# EAGLE library part SIM_CD (library bschulz)
SIM Card Holder with Card Detect
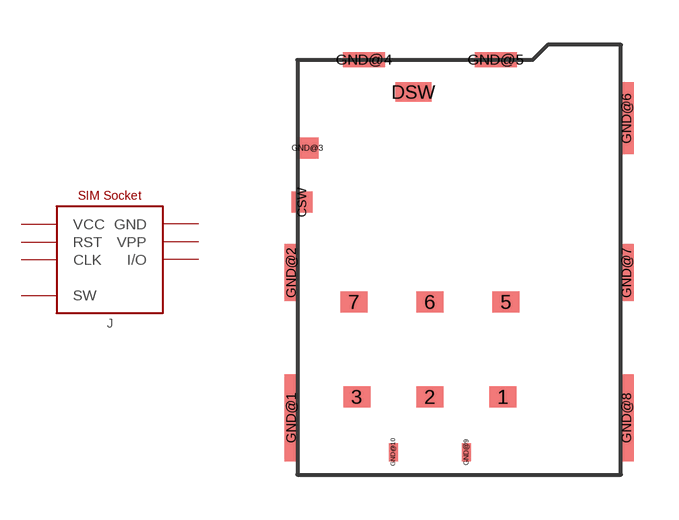
[diagram p173: symbol with the pads of SIM_SF72; footprint SIM_SF72]

Designator prefix J

## SIM_CDNANO_SF72 (DIGIKEY: 670-2967-1-ND; MF: JAE; MPN: SF72S006VBDR2500)  [SIM_SF72]
1  VCC  pwr
2  RST  in
3  CLK  in
5  GND  pwr
6  VPP  pwr
7  I/O
CSW  GND  pwr
DSW  SW  out
GND@1  GND  pwr
GND@2  GND  pwr
GND@3  GND  pwr
GND@4  GND  pwr
GND@5  GND  pwr
GND@6  GND  pwr
GND@7  GND  pwr
GND@8  GND  pwr
GND@9  GND  pwr
GND@10  GND  pwr

## Footprint SIM_SF72 (pad centres in mm)
Nano SIM card holder with position detect switch Datasheet <https://www.jae.com/direct/topics/topics_file_download/topics_id=68892&ext_no=06&index=0&_lang=en>
smd 0.9 x 0.7: 1 2.44,2.6; 2 0,2.6; 3 -2.44,2.6; 5 2.54,5.77; 6 0,5.77; 7 -2.54,5.77
smd 0.7 x 0.7: CSW -4.27,9.1
smd 1.2 x 0.65: DSW -0.55,12.775
smd 0.45 x 2.9: GND@1 -4.62,1.9; GND@8 6.58,1.9
smd 0.45 x 1.9: GND@2 -4.62,6.75; GND@7 6.58,6.75
smd 0.75 x 0.7: GND@3 -4.095,10.9
smd 1.4 x 0.5: GND@4 -2.2,13.85; GND@5 2.2,13.85
smd 0.45 x 2.4: GND@6 6.58,11.9
smd 0.3 x 0.6: GND@9 1.22,0.75; GND@10 -1.22,0.75